# Altium footprint library Miscellaneous Connectors.PcbLib: 44 footprints (part 2 of 3)
Each footprint in its own frame and in the unit in brackets; x right, y up, seen from the top. Pads: shape width x height; smd on the part's side, far side on the other; paste and mask are expansions set on the pad; w line width, h text height; cw(c..) or ccw(c..) is an arc to the next point about the centre after c.
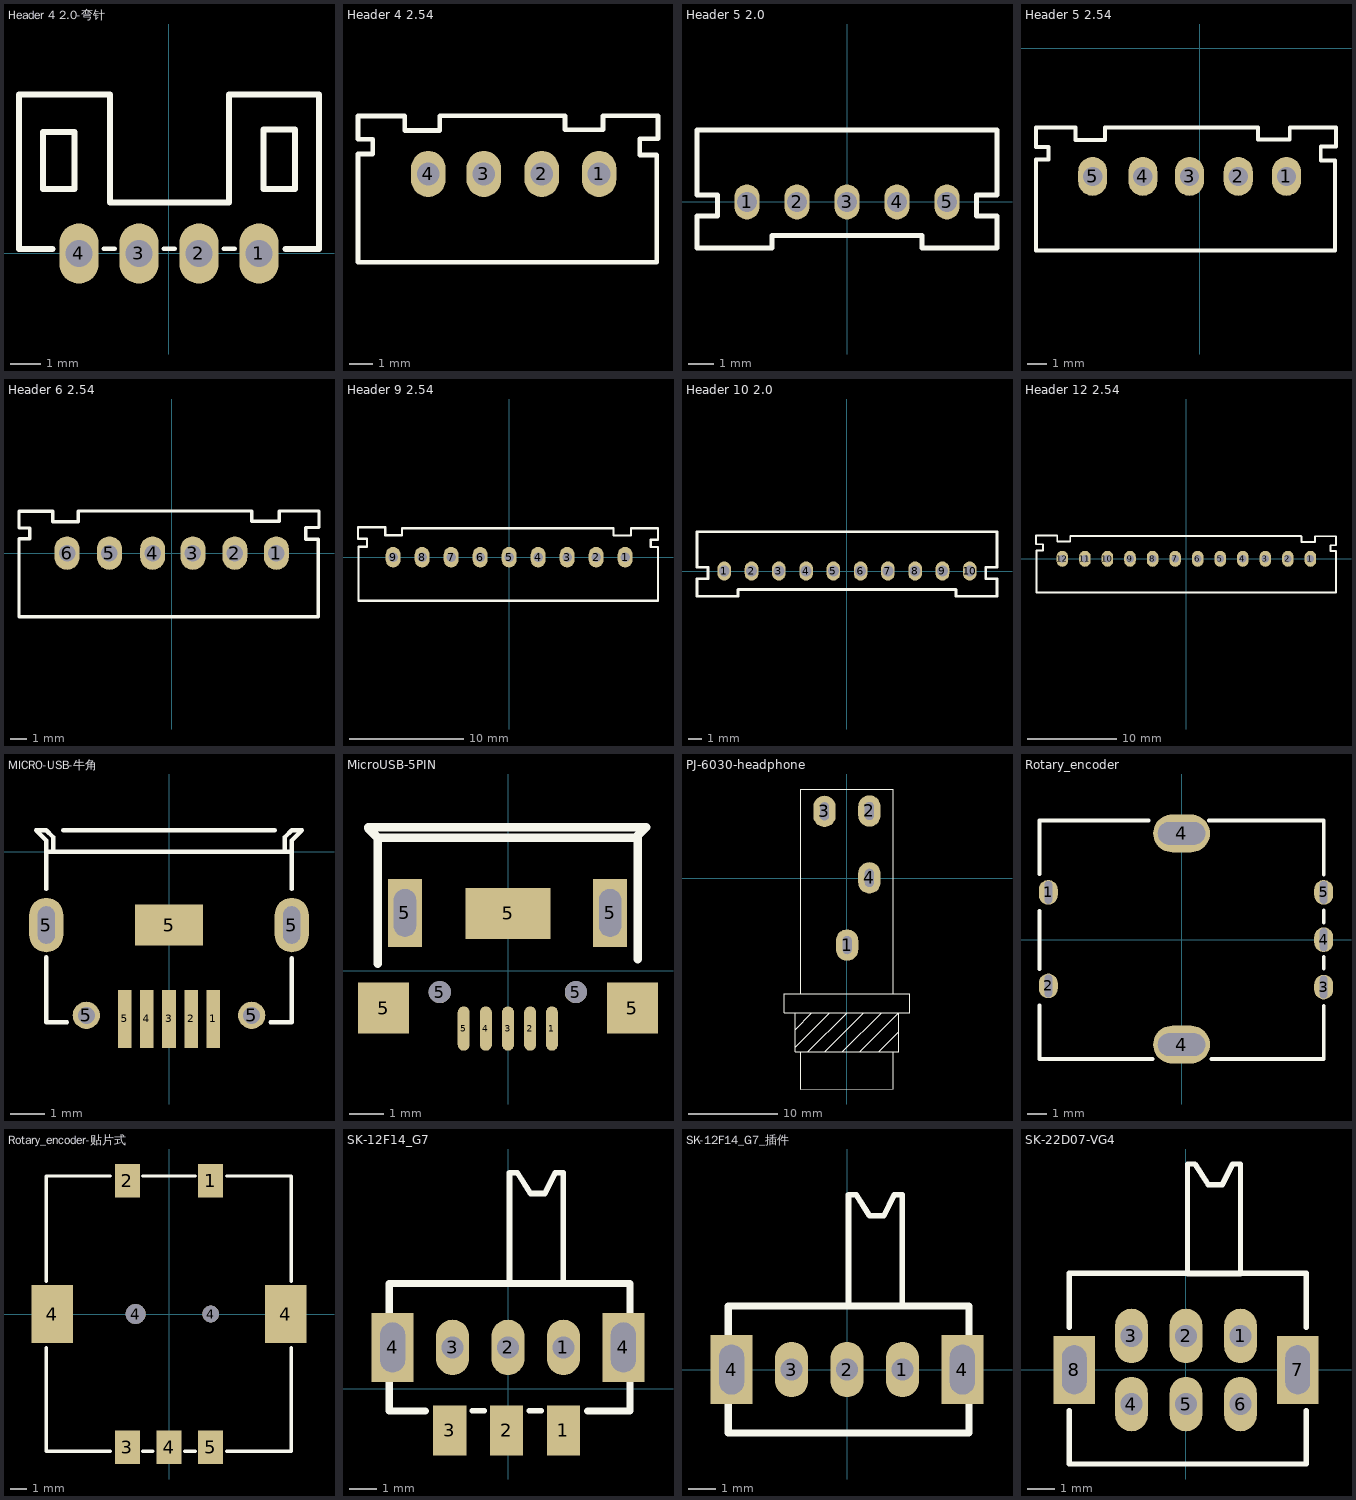
[diagram p1: the footprints below, top view; thin cyan lines are the x and y axes]

## Header 4 2.0-弯针 [mm]
pads (4):
  oval 1.3x2 hole 0.9: 1(3,0) 2(1,0) 3(-1,0) 4(-3,0)
Top Overlay:
  lines w0.15: -2.168,0.15 -1.815,0.15 ; -0.168,0.15 0.185,0.15 ; 1.832,0.15 2.185,0.15
  lines w0.2: -3.882,0.15 -5,0.15 -5,5.3 -1.965,5.3 -1.965,1.7 1.997,1.7 1.997,5.3 5,5.3 5,0.15 3.882,0.15 ; -4.2,2.15 -4.2,4.05 -3.15,4.05 -3.15,2.15 -4.2,2.15 ; 3.15,2.15 3.15,4.13 4.2,4.13 4.2,2.15 3.15,2.15
3D body "XH2.0-4 -弯针.STEP": height 4.75, standoff -1.07, extent -5,-0.271 5,6.379

## Header 4 2.54 [mm]
pads (4):
  oval 1.5x2 hole 0.991: 1(16.942,-50.8) 2(14.453,-50.8) 3(11.938,-50.8) 4(9.525,-50.8)
Top Overlay:
  lines w0.2: 6.474,-54.633 19.442,-54.633 ; 10.03,-48.283 10.037,-48.276 15.462,-48.276
  lines w0.203: 6.474,-54.633 6.474,-49.934 7.109,-49.934 7.109,-49.299 6.474,-49.299 6.474,-48.283 8.506,-48.283 8.506,-48.918 10.03,-48.918 10.03,-48.283 ; 15.462,-48.276 15.462,-48.886 17.113,-48.886 17.113,-48.276 19.5,-48.276 19.5,-49.267 18.713,-49.267 18.713,-49.978 19.449,-49.978 19.449,-54.626
3D body "User Library-XH_Right.STEP": height 7, standoff -3.5, extent 6.5,-54.46 10.55,-48.46
3D body "User Library-XH_Mid.STEP": height 7, standoff -3.5, extent 10.55,-54.46 13.05,-48.46
3D body "User Library-XH_Mid.STEP": height 7, standoff -3.5, extent 13.052,-54.46 15.552,-48.46
3D body "User Library-XH_Left.STEP": height 7, standoff -3.5, extent 15.553,-54.46 19.603,-48.46

## Header 5 2.0 [mm]
pads (5):
  oval 1x1.4 hole 0.8: 1(-4,0) 2(-2,0) 3(0,0) 4(2,0) 5(4,0)
Top Overlay:
  lines w0.2: -6,0.279 -6,2.877 6,2.877 6,0.279 5.187,0.279 ; -5.998,0.279 -5.185,0.279 -5.185,-0.559 -6,-0.559 -6,-1.848 -3,-1.848 -3,-1.348 3,-1.348 3,-1.848 6,-1.848 6,-0.559 5.185,-0.559 5.185,0.279
3D body "XH2.0-5.STEP": height 6.1, standoff -3, extent -6.006,-1.791 5.994,2.909

## Header 5 2.54 [mm]
pads (5):
  oval 1.5x2 hole 0.991: 1(4.484,-6.61) 2(1.995,-6.61) 3(-0.52,-6.61) 4(-2.933,-6.61) 5(-5.524,-6.61)
Top Overlay:
  lines w0.2: -8.45,-10.436 6.991,-10.436 ; -4.894,-4.086 3.004,-4.086
  lines w0.203: -8.45,-10.436 -8.45,-5.737 -7.815,-5.737 -7.815,-5.102 -8.45,-5.102 -8.45,-4.086 -6.418,-4.086 -6.418,-4.721 -4.894,-4.721 -4.894,-4.086 ; 3.004,-4.086 3.004,-4.696 4.655,-4.696 4.655,-4.086 7.042,-4.086 7.042,-5.077 6.255,-5.077 6.255,-5.788 6.991,-5.788 6.991,-10.436
3D body "User Library-XH_Mid.STEP": height 7, standoff -3.5, extent -4.339,-10.26 -1.839,-4.26
3D body "User Library-XH_Mid.STEP": height 7, standoff -3.5, extent -1.838,-10.26 0.662,-4.26
3D body "User Library-XH_Mid.STEP": height 7, standoff -3.5, extent 0.664,-10.26 3.164,-4.26
3D body "User Library-XH_Left.STEP": height 7, standoff -3.5, extent 3.165,-10.26 7.215,-4.26
3D body "User Library-XH_Right.STEP": height 7, standoff -3.5, extent -8.4,-10.26 -4.35,-4.26

## Header 6 2.54 [mm]
pads (6):
  oval 1.5x2 hole 0.991: 1(6.274,0) 2(3.785,0) 3(1.27,0) 4(-1.143,0) 5(-3.734,0)
  oval 1.5x2 hole 1: 6(-6.274,0)
Top Overlay:
  lines w0.203: -9.159,-3.826 8.781,-3.826 8.781,0.822 8.045,0.822 8.045,1.533 8.832,1.533 8.832,2.524 6.445,2.524 6.445,1.914 4.794,1.914 4.794,2.524 4.692,2.524 -5.603,2.524 ; -9.133,-3.829 -9.159,-3.829 -9.159,0.87 -8.524,0.87 -8.524,1.505 -9.159,1.505 -9.159,2.521 -7.127,2.521 -7.127,1.886 -5.603,1.886 -5.603,2.521
3D body "User Library-XH_Mid.STEP": height 7, standoff -3.5, extent -5.05,-3.65 -2.55,2.35
3D body "User Library-XH_Mid.STEP": height 7, standoff -3.5, extent -2.549,-3.65 -0.049,2.35
3D body "User Library-XH_Mid.STEP": height 7, standoff -3.5, extent -0.048,-3.65 2.452,2.35
3D body "User Library-XH_Mid.STEP": height 7, standoff -3.5, extent 2.454,-3.65 4.954,2.35
3D body "User Library-XH_Left.STEP": height 7, standoff -3.5, extent 4.955,-3.65 9.005,2.35
3D body "User Library-XH_Right.STEP": height 7, standoff -3.5, extent -9.138,-3.659 -5.088,2.341

## Header 9 2.54 [mm]
pads (9):
  oval 1.3x1.8 hole 0.85: 1(10.16,0) 2(7.62,0) 3(5.08,0) 4(2.54,0) 5(0,0) 6(-2.54,0) 7(-5.08,0) 8(-7.62,0) 9(-10.16,0)
Top Overlay:
  lines w0.2: -13.175,-3.81 -9.691,-3.81 ; -10.849,1.93 -9.382,1.93
  lines w0.203: -13.186,-3.799 -13.186,0.919 -12.449,0.919 -12.449,1.63 -13.237,1.63 -13.237,2.621 -10.849,2.621 -10.849,1.932 ; -9.691,-3.81 13.037,-3.81 13.037,0.889 12.402,0.889 12.402,1.524 13.037,1.524 13.037,2.54 10.668,2.54 10.668,1.905 9.144,1.905 9.144,2.54 -9.382,2.54 -9.382,1.93
3D body "User Library-XH_Mid.STEP": height 3, standoff -7.5, extent 6.306,-3.61 8.806,2.39
3D body "User Library-XH_Mid.STEP": height 3, standoff -7.5, extent 3.758,-3.61 6.258,2.39
3D body "User Library-XH_Mid.STEP": height 3, standoff -7.5, extent 1.21,-3.61 3.71,2.39
3D body "User Library-XH_Mid.STEP": height 3, standoff -7.5, extent -1.338,-3.61 1.162,2.39
3D body "User Library-XH_Mid.STEP": height 3, standoff -7.5, extent -3.886,-3.61 -1.386,2.39
3D body "User Library-XH_Mid.STEP": height 3, standoff -7.5, extent -6.434,-3.61 -3.934,2.39
3D body "User Library-XH_Mid.STEP": height 3, standoff -7.5, extent -8.982,-3.61 -6.482,2.39
3D body "User Library-XH_Right.STEP": height 3, standoff -7.5, extent -13.082,-3.61 -9.032,2.39
3D body "User Library-XH_Left.STEP": height 3, standoff -7.5, extent 8.806,-3.61 12.856,2.39

## Header 10 2.0 [mm]
pads (10):
  oval 1x1.4 hole 0.8: 1(-9,0) 2(-7,0) 3(-5,0) 4(-3,0) 5(-1,0) 6(1,0) 7(3,0) 8(5,0) 9(7,0) 10(9,0)
Top Overlay:
  lines w0.2: -11,0.279 -11,2.877 11,2.877 11,0.279 ; -10.998,0.279 -10.185,0.279 -10.185,-0.559 -11,-0.559 -11,-1.848 -8,-1.848 -8,-1.348 8,-1.348 8,-1.848 11,-1.848 11,-0.559 10.185,-0.559 10.185,0.279 ; 10.187,0.279 11.002,0.279
3D body "XH2.0-10.STEP": height 6.2, standoff -2.9, extent -10.951,-1.835 11.049,2.865

## Header 12 2.54 [mm]
pads (12):
  oval 1.3x1.8 hole 0.85: 1(13.97,0) 2(11.43,0) 3(8.89,0) 4(6.35,0) 5(3.81,0) 6(1.27,0) 7(-1.27,0) 8(-3.81,0) 9(-6.35,0) 10(-8.89,0) 11(-11.43,0) 12(-13.97,0)
Top Overlay:
  lines w0.2: -14.549,1.94 -13.082,1.94 ; -13.082,2.55 12.944,2.55
  lines w0.203: -16.886,-3.81 16.847,-3.81 16.847,0.889 16.212,0.889 16.212,1.524 16.847,1.524 16.847,2.54 14.478,2.54 14.478,1.905 12.954,1.905 12.954,2.54 ; -16.886,-3.789 -16.886,0.929 -16.149,0.929 -16.149,1.64 -16.937,1.64 -16.937,2.631 -14.549,2.631 -14.549,1.942 ; -13.082,1.94 -13.082,2.55
3D body "User Library-XH_Mid.STEP": height 3, standoff -7.5, extent -7.696,-3.61 -5.196,2.39
3D body "User Library-XH_Mid.STEP": height 3, standoff -7.5, extent -10.244,-3.61 -7.744,2.39
3D body "User Library-XH_Mid.STEP": height 3, standoff -7.5, extent -12.792,-3.61 -10.292,2.39
3D body "User Library-XH_Left.STEP": height 3, standoff -7.5, extent 12.616,-3.61 16.666,2.39
3D body "User Library-XH_Right.STEP": height 3, standoff -7.5, extent -16.85,-3.61 -12.8,2.39
3D body "User Library-XH_Mid.STEP": height 3, standoff -7.5, extent -5.172,-3.61 -2.672,2.39
3D body "User Library-XH_Mid.STEP": height 3, standoff -7.5, extent -2.624,-3.61 -0.124,2.39
3D body "User Library-XH_Mid.STEP": height 3, standoff -7.5, extent -0.076,-3.61 2.424,2.39
3D body "User Library-XH_Mid.STEP": height 3, standoff -7.5, extent 2.472,-3.61 4.972,2.39
3D body "User Library-XH_Mid.STEP": height 3, standoff -7.5, extent 5.02,-3.61 7.52,2.39
3D body "User Library-XH_Mid.STEP": height 3, standoff -7.5, extent 7.568,-3.61 10.068,2.39
3D body "User Library-XH_Mid.STEP": height 3, standoff -7.5, extent 10.116,-3.61 12.616,2.39

## MICRO-USB-牛角 [mm]
pads (10):
  rect 0.4x1.7 smd mask+0.05: 1(1.3,-4.9) 2(0.65,-4.9) 3(0,-4.9) 4(-0.65,-4.9) 5(-1.3,-4.9)
  oval 1x1.6 hole 0.5 slot 1.1 at 90 deg mask+0.05: 5(-3.6,-2.15) 5(3.6,-2.15)
  round 0.8 hole 0.5 mask+0.05: 5(-2.425,-4.8) 5(2.425,-4.8)
  rect 2x1.2 smd mask+0.05: 5(0,-2.15)
Top Overlay:
  lines w0.127: -3.6,-3.099 -3.6,-5 -2.992,-5 ; -3.6,-1.092 -3.6,0.33 ; -3.6,0 3.6,0 ; -3.6,0.3 -3.6,0.33 ; -3.4,0 -3.4,0.43 -3.6,0.63 -3.9,0.63 -3.6,0.33 ; -3.1,0.63 3.1,0.63 ; 2.977,-5 3.6,-5 3.6,-3.124 ; 3.4,0 3.4,0.43 3.6,0.63 3.9,0.63 3.6,0.33 ; 3.6,-1.092 3.6,0.33 ; 3.6,0.2 3.6,0.33
3D body "Micro USBĸͷ.STEP": height 2.5, standoff -1.1, extent -4.769,-5.8 4.769,0.5

## MicroUSB-5PIN [mm]
pads (12):
  oval 0.35x1.3 smd: 1(1.29,-1.69) 2(0.65,-1.69) 3(0,-1.69) 4(-0.65,-1.69) 5(-1.3,-1.69)
  rect 1.5x1.5 smd: 5(-3.65,-1.09) 5(3.65,-1.09)
  rect 1x2 hole 0.65 slot 1.4 at 90 deg: 5(-3.023,1.702) 5(2.997,1.702)
  round 0.65 hole 0.65: 5(-2,-0.62) 5(1.99,-0.62)
  rect 2.5x1.5 smd: 5(0,1.69)
Top Overlay:
  lines w0.254: -3.82,0.211 -3.82,3.905 ; 3.81,0.345 3.81,3.905 ; -3.82,3.905 3.62,3.905 3.81,3.905 ; -3.82,3.905 -4.1,4.185 -4.1,4.215 4.05,4.215 3.81,3.975 3.81,3.905
3D body "KH-MICRO5P-ZH.STEP": height 2.47, standoff -0.48, extent -3.716,-1.806 3.684,4.594

## PJ-6030-headphone [mm]
pads (4):
  oval 2.5x3.5 hole 1 slot 2 at 90 deg: 1(0.025,-7.485) 2(2.505,7.485) 3(-2.505,7.445) 4(2.505,0.015)
Top Overlay:
  lines w0.1: -5.791,-18.876 -1.931,-15.059 ; -5.791,-16.927 -3.902,-15.059 ; -5.791,-15.059 -5.791,-19.409 5.809,-19.409 5.809,-15.059 1.41,-19.409 ; -5.141,-19.409 -5.141,-23.559 5.159,-23.559 5.159,-19.409 ; -4.367,-19.409 0.032,-15.059 ; -2.493,-19.409 1.906,-15.059 ; -0.495,-19.409 3.904,-15.059 ; 3.536,-19.409 5.809,-17.161 ; -5.141,-12.909 5.159,-12.909 ; -5.141,-12.909 -6.991,-12.909 -6.991,-15.059 -5.141,-15.059 5.159,-15.059 7.009,-15.059 7.009,-12.909 5.159,-12.909 ; -5.141,-12.909 -5.141,9.941 5.159,9.941 5.159,-12.909

## Rotary_encoder [mm]
pads (7):
  oval 1x1.3 hole 0.4 slot 1.2 at 90 deg unplated: 1(-7.036,2.5) 2(-7.036,-2.438) 3(7.5,-2.5) 4(7.5,0) 5(7.5,2.5)
  oval 3x2 hole 1.2 slot 2.5 at 0 deg unplated: 4(0,-5.537) 4(0,5.613)
Top Overlay:
  lines w0.2: -7.5,-3.454 -7.5,-6.3 -1.524,-6.3 ; -7.5,-1.549 -7.5,1.524 ; -7.5,3.454 -7.5,6.3 -1.753,6.3 ; 1.448,6.3 7.5,6.3 7.5,3.429 ; 1.575,-6.3 7.5,-6.3 7.5,-3.505 ; 7.5,-1.524 7.5,-0.914 ; 7.5,0.914 7.5,1.549
3D body "EC11E-05SW.step": height 24.5, standoff -3.65, extent -7.232,-5.856 7.718,5.856

## Rotary_encoder-贴片式 [mm]
pads (9):
  rect 1.5x2 smd: 1(2.5,8) 2(-2.5,8) 3(-2.5,-8) 4(0,-8) 5(2.5,-8)
  rect 2.5x3.5 smd: 4(-7,0) 4(7,0)
  round 1.2 hole 1.2 unplated: 4(-2,0)
  round 1 hole 1 unplated: 4(2.5,0)
Top Overlay:
  lines w0.2: -7.366,-2.032 -7.366,-8.23 -3.505,-8.23 ; -7.366,1.956 -7.366,8.28 -3.505,8.28 ; -1.575,-8.23 -0.965,-8.23 ; -1.575,8.28 1.575,8.28 ; 0.94,-8.23 1.575,-8.23 ; 3.454,-8.23 7.341,-8.23 7.341,-2.032 ; 3.454,8.28 7.341,8.28 7.341,1.956
3D body "EC11装配体.STEP": height 13.34, standoff -0.86, extent -7.366,-8.275 7.334,8.275

## SK-12F14_G7 [mm]
pads (8):
  rect 1.2x1.8 smd: 1(2,-1.5) 2(-0.05,-1.5) 3(-2.1,-1.5)
  oval 1.2x2 hole 0.8: 1(2,1.5) 2(0,1.5) 3(-2,1.5)
  rect 1.524x2.5 hole 0.9 slot 1.8 at 90 deg: 4(-4.166,1.499) 4(4.166,1.499)
Top Overlay:
  lines w0.2: -1.295,-0.787 -0.864,-0.787 ; 0.775,-0.787 1.206,-0.787 ; 0.055,3.789 0.055,7.808 0.329,7.808 0.816,7.054 1.334,7.054 1.706,7.808 2,7.808 2,3.789 0.055,3.789
  lines w0.254: -2.972,-0.8 -4.287,-0.8 -4.287,3.8 4.41,3.8 4.41,-0.8 2.87,-0.8
3D body "SK12D07VG4.STEP": height 4.8, standoff -2.5, extent -4.35,-0.7 4.35,7.7

## SK-12F14_G7_插件 [mm]
pads (5):
  oval 1.2x2 hole 0.8: 1(2,0.001) 2(0,0.001) 3(-2,0.001)
  rect 1.524x2.5 hole 0.9 slot 1.8 at 90 deg: 4(-4.166,-0.001) 4(4.166,-0.001)
Top Overlay:
  lines w0.2: 0.055,2.29 2,2.29 2,6.309 1.706,6.309 1.334,5.555 0.816,5.555 0.329,6.309 0.055,6.309 0.055,2.29
  lines w0.254: -4.287,-2.299 4.41,-2.299 4.41,2.301 -4.287,2.301 -4.287,-2.299
3D body "SK12D07VG4.STEP": height 4.8, standoff -2.5, extent -4.35,-2.199 4.35,6.201

## SK-22D07-VG4 [mm]
pads (8):
  oval 1.2x2 hole 0.8: 1(2,1.25) 2(0,1.25) 3(-2,1.25) 4(-2,-1.25) 5(0,-1.25) 6(2,-1.25)
  rect 1.524x2.5 hole 0.9 slot 1.8 at 90 deg: 7(4.1,0.004) 8(-4.1,0.004)
Top Overlay:
  lines w0.2: -4.287,-1.499 -4.287,-3.45 4.41,-3.45 4.41,-1.499 ; -4.287,1.574 -4.287,3.55 4.41,3.55 4.41,1.574 ; 0.055,3.539 0.055,7.558 0.329,7.558 0.816,6.804 1.334,6.804 1.706,7.558 2,7.558 2,3.539 0.055,3.539
3D body "SK-22D07-VG4.step": height 4.8, standoff -3, extent -4.275,-3.451 4.325,7.449